# Altium schematic symbol library PBSS4260PANP.SchLib: 1 symbol
Pins are listed as number, name and electrical type; pins without a type are passive.

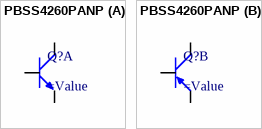
[diagram p0: symbol PBSS4260PANP]

## PBSS4260PANP
designator Q?
part A pins: 1, 2, 6, 7
part B pins: 3, 4, 5, 8